# Altium schematic symbol library MOSFET-P-CHANNEL.SchLib: 1 symbol
Pins are listed as number, name and electrical type; pins without a type are passive.

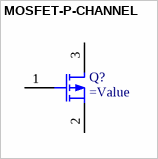
[diagram p0: symbol MOSFET-P-CHANNEL]

## MOSFET-P-CHANNEL
designator Q?
=Desciption
pins: 1 G, 2 S, 3 D